# EAGLE library part ATTINY3217-MFR (library graftel-internal-ic)
20MHZ, 32KB, QFN24, Ind 125C, Green, T&r
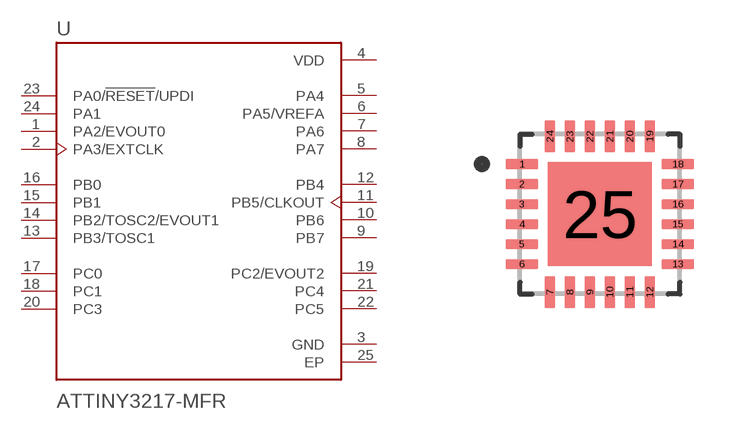
[diagram p65: symbol with the pads of QFN50P400X400X90-25N; footprint QFN50P400X400X90-25N]

Designator prefix U

## ATTINY3217-MFR (AVAILABILITY: Unavailable; DESCRIPTION: 20MHZ, 32KB, QFN24, Ind 125C, Green, T&r; MF: Microchip; MP: ATTINY3217-MFR; PACKAGE: VFQFN-24 Microchip; PRICE: None)  [QFN50P400X400X90-25N]
1  PA2/EVOUT0
2  PA3/EXTCLK
3  GND  pwr
4  VDD  pwr
5  PA4
6  PA5/VREFA
7  PA6
8  PA7
9  PB7
10  PB6
11  PB5/CLKOUT
12  PB4
13  PB3/TOSC1
14  PB2/TOSC2/EVOUT1
15  PB1
16  PB0
17  PC0
18  PC1
19  PC2/EVOUT2
20  PC3
21  PC4
22  PC5
23  PA0/!RESET!/UPDI
24  PA1
25  EP  pwr

## Footprint QFN50P400X400X90-25N (pad centres in mm)
smd 0.81 x 0.26: 1 -1.95,1.25; 2 -1.95,0.75; 3 -1.95,0.25; 4 -1.95,-0.25; 5 -1.95,-0.75; 6 -1.95,-1.25; 13 1.95,-1.25; 14 1.95,-0.75; 15 1.95,-0.25; 16 1.95,0.25; 17 1.95,0.75; 18 1.95,1.25
smd 0.26 x 0.81: 7 -1.25,-1.95; 8 -0.75,-1.95; 9 -0.25,-1.95; 10 0.25,-1.95; 11 0.75,-1.95; 12 1.25,-1.95; 19 1.25,1.95; 20 0.75,1.95; 21 0.25,1.95; 22 -0.25,1.95; 23 -0.75,1.95; 24 -1.25,1.95
smd 2.6 x 2.6: 25 0,0